# Altium footprint library 16Z.PcbLib: 42 footprints (part 2 of 3)
Each footprint in its own frame and in the unit in brackets; x right, y up, seen from the top. Pads: shape width x height; smd on the part's side, far side on the other; paste and mask are expansions set on the pad; w line width, h text height; cw(c..) or ccw(c..) is an arc to the next point about the centre after c.
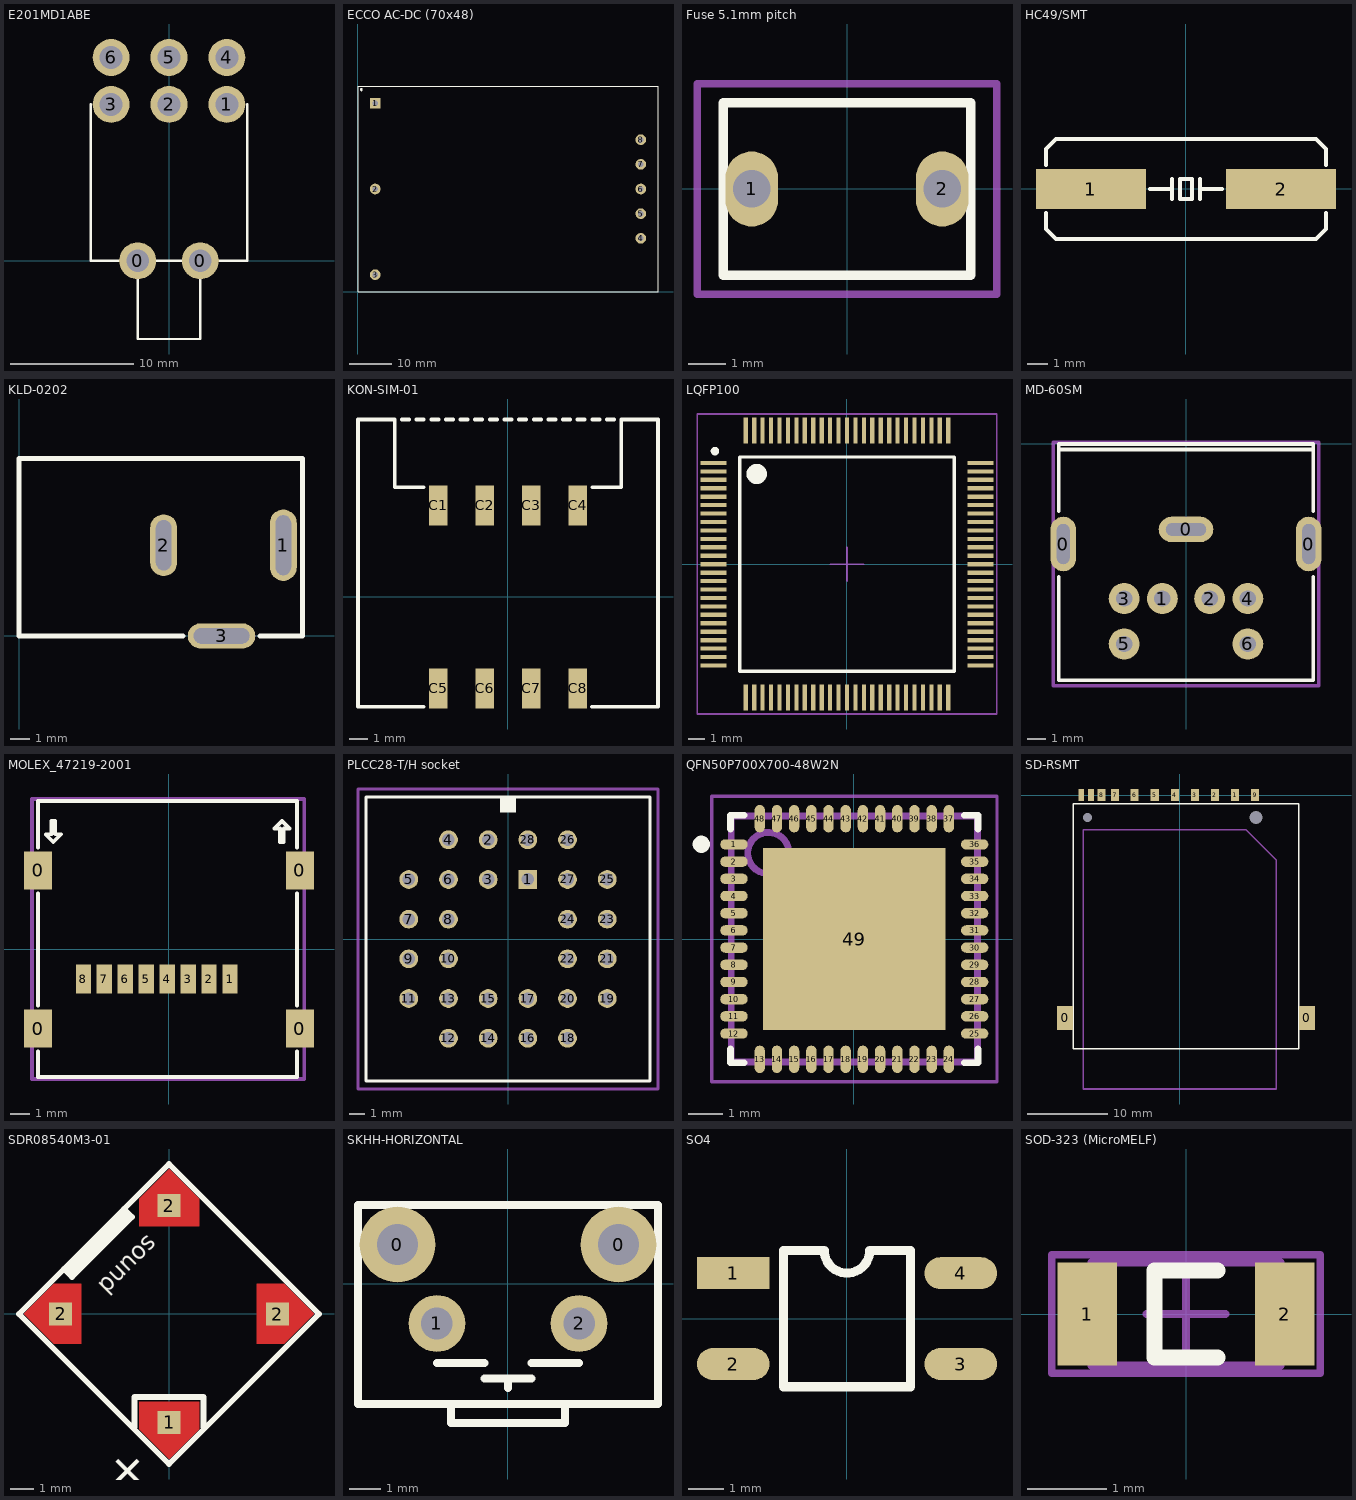
[diagram p1: the footprints below, top view; thin cyan lines are the x and y axes]

## E201MD1ABE [mm] "E series toggle switch (horizontal)"
height 11.4
pads (8):
  round 3 hole 1.85: 0(-2.54,0) 0(2.54,0) 1(4.699,12.7) 2(0,12.7) 3(-4.699,12.7) 4(4.699,16.51) 5(0,16.51) 6(-4.699,16.51)
Top Overlay:
  lines w0.2: -6.35,12.7 -6.35,0 6.35,0 6.35,12.7 ; -2.54,0 -2.54,-6.35 2.54,-6.35 2.54,0
3D body: height 18, standoff 0, extent -6.35,0 6.35,12.7

## ECCO AC-DC (70x48) [mm] "AC/DC converter"
height 23.5
pads (8):
  rect 2.5x2.5 hole 1.22: 1(4,44)
  round 2.5 hole 1.22: 2(4,24) 3(4,4) 4(66,12.5) 5(66,18.25) 6(66,24) 7(66,29.75) 8(66,35.5)
Top Overlay:
  circle w0.254: c0.8,47.2 r0.224
  lines w0.254: 0,0 70,0 70,48 0,48 0,0
3D body: height 23.5, standoff 0, extent 0,0 70,48

## Fuse 5.1mm pitch [mm] "Resettable fuse 5.1mm pitch"
height 11
pads (2):
  oval 1.4x2 hole 1: 1(-2.54,0) 2(2.54,0)
Top Overlay:
  lines w0.254: -3.3,-2.3 3.3,-2.3 3.3,2.3 -3.3,2.3 -3.3,-2.3
Mechanical 13:
  lines w0.2: -4,-2.8 -4,2.8 4,2.8 4,-2.8 -4,-2.8
3D body: height 11, standoff 1, extent -3.3,-2.3 3.3,2.3
3D body: height 1, standoff 0, extent -2.859,-0.317 -2.221,0.32
3D body: height 1, standoff 0, extent 2.221,-0.317 2.859,0.32

## HC49/SMT [mm] "Standard HC49/SMT footprint"
height 4
pads (2):
  rect 5.5x2 smd: 1(-4.75,0) 2(4.75,0)
Top Overlay:
  lines w0.2: -7,-1.2 -7,-2 -6.5,-2.5 6.5,-2.5 7,-2 7,-1.2 ; -7,1.2 -7,2 -6.5,2.5 6.5,2.5 7,2 7,1.2 ; -1.8,0 -0.7,0 ; -0.7,-0.5 -0.7,0.5 ; 0.7,-0.5 0.7,0.5 ; 0.7,0 1.8,0 ; -0.3,-0.5 -0.3,0.5 0,0.5 0.3,0.5 0.3,-0.5 0,-0.5 -0.3,-0.5
3D body: height 1, standoff 0, extent -7,-2.5 7,2.5
3D body: height 3, standoff 1, extent -6.3,-1.7 6.3,1.7

## KLD-0202 [mm] "KLD-0202-XX DC jack (RIGHT ANGLE)"
height 11
pads (3):
  oval 1.4x3.7 hole 0.8 slot 3.1 at 90 deg: 1(13.7,4.7)
  oval 1.4x3.2 hole 0.8 slot 2.6 at 90 deg: 2(7.5,4.7)
  oval 3.5x1.3 hole 0.8 slot 2.9 at 0 deg: 3(10.5,0)
Top Overlay:
  lines w0.254: 8.5,0 0,0 0,9.2 14.7,9.2 14.7,0 14.5,0 12.5,0
3D body: height 4.6, standoff 0, extent 0,0 14.7,9.2
3D body: height 9.16, standoff 0, extent 0.05,0.018 14.75,9.2

## KON-SIM-01 [mm] "Open SIM connector"
height 2.7
pads (8):
  rect 1x2.2 smd: C1(-3.81,5) C2(-1.27,5) C3(1.27,5) C4(3.81,5) C5(-3.81,-5) C6(-1.27,-5) C7(1.27,-5) C8(3.81,-5)
Top Overlay:
  lines w0.2: -5.8,9.7 -5.4,9.7 ; -5,9.7 -4.6,9.7 ; -4.61,-6 -8.2,-6 -8.2,9.7 -6.2,9.7 -6.2,6 -4.6,6 ; -4.2,9.7 -3.8,9.7 ; -3.4,9.7 -3,9.7 ; -2.6,9.7 -2.2,9.7 ; -1.8,9.7 -1.4,9.7 ; -1,9.7 -0.6,9.7 ; -0.2,9.7 0.2,9.7 ; 0.6,9.7 1,9.7 ; 1.4,9.7 1.8,9.7 ; 2.2,9.7 2.6,9.7 ; 3,9.7 3.4,9.7 ; 3.8,9.7 4.2,9.7 ; 4.59,-6 8.2,-6 8.2,9.7 6.2,9.7 6.2,6 4.6,6 ; 4.6,9.7 5,9.7 ; 5.4,9.7 5.8,9.7
3D body: height 2.7, standoff 0, extent -8.2,-6 8.2,9.7
3D body: height 3, standoff 1, extent -7.5,-15.8 7.5,9.2

## LQFP100 [mm] "0.5mm Pitch LQFP100 Package"
height 1.041
pads (100):
  rect 1.55x0.25 smd: 1(-7.9,6) 2(-7.9,5.5) 3(-7.9,5) 4(-7.9,4.5) 5(-7.9,4) 6(-7.9,3.5) 7(-7.9,3) 8(-7.9,2.5) 9(-7.9,2) 10(-7.9,1.5) 11(-7.9,1) 12(-7.9,0.5) 13(-7.9,0) 14(-7.9,-0.5) 15(-7.9,-1) 16(-7.9,-1.5) 17(-7.9,-2) 18(-7.9,-2.5) 19(-7.9,-3) 20(-7.9,-3.5) 21(-7.9,-4) 22(-7.9,-4.5) 23(-7.9,-5) 24(-7.9,-5.5) 25(-7.9,-6) 51(7.9,-6) 52(7.9,-5.5) 53(7.9,-5) 54(7.9,-4.5) 55(7.9,-4) 56(7.9,-3.5) 57(7.9,-3) 58(7.9,-2.5) 59(7.9,-2) 60(7.9,-1.5) 61(7.9,-1) 62(7.9,-0.5) 63(7.9,0) 64(7.9,0.5) 65(7.9,1) 66(7.9,1.5) 67(7.9,2) 68(7.9,2.5) 69(7.9,3) 70(7.9,3.5) 71(7.9,4) 72(7.9,4.5) 73(7.9,5) 74(7.9,5.5) 75(7.9,6)
  rect 0.25x1.55 smd: 26(-6,-7.9) 27(-5.5,-7.9) 28(-5,-7.9) 29(-4.5,-7.9) 30(-4,-7.9) 31(-3.5,-7.9) 32(-3,-7.9) 33(-2.5,-7.9) 34(-2,-7.9) 35(-1.5,-7.9) 36(-1,-7.9) 37(-0.5,-7.9) 38(0,-7.9) 39(0.5,-7.9) 40(1,-7.9) 41(1.5,-7.9) 42(2,-7.9) 43(2.5,-7.9) 44(3,-7.9) 45(3.5,-7.9) 46(4,-7.9) 47(4.5,-7.9) 48(5,-7.9) 49(5.5,-7.9) 50(6,-7.9) 76(6,7.925) 77(5.5,7.925) 78(5,7.925) 79(4.5,7.925) 80(4,7.925) 81(3.5,7.925) 82(3,7.925) 83(2.5,7.925) 84(2,7.925) 85(1.5,7.925) 86(1,7.925) 87(0.5,7.925) 88(0,7.925) 89(-0.5,7.925) 90(-1,7.925) 91(-1.5,7.925) 92(-2,7.925) 93(-2.5,7.925) 94(-3,7.925) 95(-3.5,7.925) 96(-4,7.925) 97(-4.5,7.925) 98(-5,7.925) 99(-5.5,7.925) 100(-6,7.925)
Top Overlay:
  circle w0.25: c-7.825,6.7 r0.125
  circle w0.6: c-5.35,5.35 r0.3
  lines w0.2: -6.35,-6.35 -6.35,6.35 6.35,6.35 6.35,-6.35 -6.35,-6.35
Mechanical 15:
  lines w0.1: -8.875,-8.875 -8.875,8.9 8.875,8.9 8.875,-8.875 -8.875,-8.875
  lines w0.102: -1,0 1,0 ; 0,-1 0,1
3D body: height 1.6, standoff 0, extent -7,-7 7,7

## MD-60SM [mm] "6-pin mini-DIN connector (female) PS/2"
height 12.8
pads (9):
  oval 1.4x3 hole 0.7 slot 2.2 at 90 deg: 0(-6.75,-5.5) 0(6.75,-5.5)
  oval 3x1.4 hole 0.7 slot 2.2 at 0 deg: 0(0,-4.7)
  round 1.7 hole 0.9: 1(-1.3,-8.5) 2(1.3,-8.5) 3(-3.4,-8.5) 4(3.4,-8.5) 5(-3.4,-11) 6(3.4,-11)
Top Overlay:
  lines w0.2: -7,-7.3 -7,-13 7,-13 7,-7.3 ; -7,-3.7 -7,-0.3 ; 7,-3.7 7,-0.3 ; -7,-0.3 -7,0 7,0 7,-0.3 ; -7,-0.3 7,-0.3
Mechanical 11:
  lines w0.2: -7.3,-13.3 7.3,-13.3 7.3,0.1 -7.3,0.1 -7.3,-13.3
3D body: height 12.8, standoff 0.1, extent -7,-13 7,0

## MOLEX_47219-2001 [mm] "microSD connector (hinge lid type)"
height 1.9
pads (12):
  rect 1.45x2 smd: 0(-6.875,-4.15) 0(-6.875,4.15) 0(6.875,-4.15) 0(6.875,4.15)
  rect 0.8x1.5 smd: 1(3.205,-1.55) 2(2.105,-1.55) 3(1.005,-1.55) 4(-0.095,-1.55) 5(-1.195,-1.55) 6(-2.295,-1.55) 7(-3.395,-1.55) 8(-4.495,-1.55)
Top Overlay:
  lines w0.2: -6.875,-5.35 -6.875,-6.7 6.725,-6.7 6.725,-5.35 ; -6.875,-2.95 -6.875,2.95 ; -6.875,5.35 -6.875,7.8 6.725,7.8 6.725,5.35 ; 6.725,-2.95 6.725,2.95 ; -6.475,6.05 -6.075,5.65 -5.675,6.05 -5.975,6.05 -5.975,6.75 -6.175,6.75 -6.175,6.05 -6.475,6.05 ; 5.525,6.35 5.825,6.35 5.825,5.65 6.025,5.65 6.025,6.35 6.325,6.35 5.925,6.75 5.525,6.35
Mechanical 15:
  lines w0.2: -7.2,-6.8 -7.2,7.9 7.1,7.9 7.1,-6.8 -7.2,-6.8
3D body: height 1.9, standoff 0, extent -6.9,-6.7 6.7,7.8

## PLCC28-T/H socket [mm] "8428-11B1-RK-TP"
height 8
pads (28):
  rect 1.2x1.2 hole 0.8: 1(1.27,3.81)
  round 1.2 hole 0.8: 2(-1.27,6.35) 3(-1.27,3.81) 4(-3.81,6.35) 5(-6.35,3.81) 6(-3.81,3.81) 7(-6.35,1.27) 8(-3.81,1.27) 9(-6.35,-1.27) 10(-3.81,-1.27) 11(-6.35,-3.81) 12(-3.81,-6.35) 13(-3.81,-3.81) 14(-1.27,-6.35) 15(-1.27,-3.81) 16(1.27,-6.35) 17(1.27,-3.81) 18(3.81,-6.35) 19(6.35,-3.81) 20(3.81,-3.81) 21(6.35,-1.27) 22(3.81,-1.27) 23(6.35,1.27) 24(3.81,1.27) 25(6.35,3.81) 26(3.81,6.35) 27(3.81,3.81) 28(1.27,6.35)
Top Overlay:
  rectangle: -0.5,8.1 0.5,9.1
  lines w0.2: -9.1,-9.1 -9.1,9.1 9.1,9.1 9.1,-9.1 -9.1,-9.1
Mechanical 15:
  lines w0.2: -9.6,-9.6 -9.6,9.6 9.6,9.6 9.6,-9.6 -9.6,-9.6
3D body: height 8, standoff 0, extent -9.1,-9.1 9.1,9.1

## QFN50P700X700-48W2N [mm]
pads (49):
  oval 0.8x0.3 smd: 1(-3.488,2.754) 2(-3.488,2.254) 3(-3.488,1.754) 4(-3.488,1.254) 5(-3.488,0.754) 6(-3.488,0.254) 7(-3.488,-0.246) 8(-3.488,-0.746) 9(-3.488,-1.246) 10(-3.488,-1.746) 11(-3.488,-2.246) 12(-3.488,-2.746) 25(3.512,-2.746) 26(3.512,-2.246) 27(3.512,-1.746) 28(3.512,-1.246) 29(3.512,-0.746) 30(3.512,-0.246) 31(3.512,0.254) 32(3.512,0.754) 33(3.512,1.254) 34(3.512,1.754) 35(3.512,2.254) 36(3.512,2.754)
  oval 0.3x0.8 smd: 13(-2.738,-3.496) 14(-2.238,-3.496) 15(-1.738,-3.496) 16(-1.238,-3.496) 17(-0.738,-3.496) 18(-0.238,-3.496) 19(0.262,-3.496) 20(0.762,-3.496) 21(1.262,-3.496) 22(1.762,-3.496) 23(2.262,-3.496) 24(2.762,-3.496) 37(2.762,3.504) 38(2.262,3.504) 39(1.762,3.504) 40(1.262,3.504) 41(0.762,3.504) 42(0.262,3.504) 43(-0.238,3.504) 44(-0.738,3.504) 45(-1.238,3.504) 46(-1.738,3.504) 47(-2.238,3.504) 48(-2.738,3.504)
  rect 5.3x5.3 smd: 49(0.012,0.004)
Top Overlay:
  circle w0.25: c-4.438,2.759 r0.125
  lines w0.01: -2.438,-1.616 -2.438,-0.726 -0.228,-0.066 -0.198,-0.136 -2.438,-1.616 ; -2.438,0.734 -2.438,1.624 -0.198,0.144 -0.228,0.074 -2.438,0.734 ; -1.608,-2.446 -0.128,-0.206 -0.058,-0.236 -0.718,-2.446 -1.608,-2.446 ; -1.608,2.454 -0.718,2.454 -0.058,0.244 -0.128,0.214 -1.608,2.454 ; 0.082,-0.236 0.152,-0.206 1.632,-2.446 0.742,-2.446 0.082,-0.236 ; 0.082,0.244 0.742,2.454 1.632,2.454 0.152,0.214 0.082,0.244 ; 0.222,-0.136 0.252,-0.066 2.462,-0.726 2.462,-1.616 0.222,-0.136 ; 0.222,0.144 2.462,1.624 2.462,0.734 0.252,0.074 0.222,0.144
  lines w0.2: -3.588,-3.196 -3.588,-3.596 -3.188,-3.596 ; -3.588,3.204 -3.588,3.604 -3.188,3.604 ; 3.212,-3.596 3.612,-3.596 3.612,-3.196 ; 3.212,3.604 3.612,3.604 3.612,3.204
Mechanical 11:
  lines w0.001: -3.568,-3.576 3.592,-3.576 3.592,3.584 -3.568,3.584 -3.568,-3.576
Mechanical 13:
  circle w0.2: c-2.488,2.504 r0.6
  lines w0.2: -3.568,-3.576 3.592,-3.576 3.592,3.584 -3.568,3.584 -3.568,-3.576
Mechanical 15:
  lines w0.1: -0.488,0.004 0.512,0.004 ; 0.012,-0.496 0.012,0.504 ; -4.138,-4.146 4.162,-4.146 4.162,4.154 -4.138,4.154 -4.138,-4.146
3D body: height 0.8, standoff 0, extent -3.568,-3.576 3.592,3.584

## SD-RSMT [mm] "3M: SD card push-push connector"
height 3.1
pads (15):
  rect 2x3 smd: 0(-14.28,-27.75) 0(15.82,-27.75)
  rect 0x0 hole 1.1: 0(-11.5,-2.8)
  rect 0x0 hole 1.6: 0(9.5,-2.8)
  rect 1x1.5 smd: 1(6.88,0) 2(4.38,0) 3(1.88,0) 4(-0.62,0) 5(-3.12,0) 6(-5.62,0) 7(-8.05,0) 8(-9.75,0) 9(9.38,0)
  rect 0.7x1.5 smd: DET(-11.05,0) WP(-12.25,0)
Top Overlay:
  lines w0.2: -13.28,-31.6 14.82,-31.6 14.82,-1.1 -13.28,-1.1 -13.28,-31.6
Mechanical 15:
  lines w0.2: -12,-36.6 12,-36.6 12,-8.1 8.2,-4.3 -12,-4.3 -12,-36.6
3D body: height 3, standoff 0, extent -13.3,-31.6 14.9,-1.1
3D body: height 2.2, standoff 1, extent -12,-36.6 12,-31.7

## SDR08540M3-01 [mm] "TDK: Electromagnetic Buzzers SMD Terminal SDR Series"
height 4
pads (4):
  rect 1x1 smd: 1(0,-4.7) 2(-4.7,0) 2(0,4.7) 2(4.7,0)
Top Layer:
  region: 0,-6.3 1.3,-5 1.3,-3.8 -1.3,-3.8 -1.3,-5
  region: -6.3,0 -5,-1.3 -3.8,-1.3 -3.8,1.3 -5,1.3
  region: 0,6.3 -1.3,5 -1.3,3.8 1.3,3.8 1.3,5
  region: 6.3,0 5,1.3 3.8,1.3 3.8,-1.3 5,-1.3
Top Overlay:
  region: -4.2,1.6 -4.55,1.95 -1.95,4.55 -1.6,4.2
  lines w0.254: -4.55,1.95 -4.2,1.6 -1.6,4.2 -1.95,4.55 ; -1.5,-4.9 -1.5,-3.6 1.5,-3.6 1.5,-4.9 ; -6.5,0 0,6.5 6.5,0 0,-6.5 -6.5,0
  text "sound" at -0.919,3.465 h0.75
  text "+" at -1.626,-5.728 h1.52
3D body: height 4, standoff 0, extent -6.5,-6.5 6.5,6.5

## SKHH-HORIZONTAL [mm] "ALPS SKHH series horizontal tactile switch 6x6x4.3mm"
height 7.1
pads (4):
  round 2.4 hole 1.3: 0(-3.5,1.25) 0(3.5,1.25)
  round 1.8 hole 1: 1(-2.25,-1.25) 2(2.25,-1.25)
Top Overlay:
  lines w0.254: -2.25,-2.5 -0.75,-2.5 ; -1.8,-3.8 -1.8,-4.4 1.8,-4.4 1.8,-3.8 ; -0.75,-3 0.75,-3 ; 0,-3.3 0,-3 ; 0.75,-2.5 2.25,-2.5 ; -4.75,-3.8 -4.75,2.5 4.75,2.5 4.75,-3.8 -4.75,-3.8
3D body: height 5.29, standoff 1.7, extent -1.796,-4.5 1.796,-3.7
3D body: height 7, standoff 0, extent -4.8,-3.8 4.8,2.5

## SO4 [mil] "2.54mm pitch; 4.4mm body"
pads (4):
  rect 80x35 smd: 1(-125,50)
  oval 80x35 smd: 2(-125,-50) 3(125,-50) 4(125,50)
Top Overlay:
  lines w10: -70,71.73 -70,-75 70,-75 70,71.73 ; -70,75 -25,75 ccw(c0,75) 25,75 70,75
3D body: height 55.12, standoff 0, extent -98.43,-78.74 98.43,78.74

## SOD-323 (MicroMELF) [mm]
height 0.85
pads (2):
  rect 0.75x1.3 smd: 1(-1.25,0) 2(1.25,0)
Top Overlay:
  lines w0.2: 0.4,-0.55 -0.4,-0.55 -0.4,0.55 0.4,0.55
Mechanical 13:
  lines w0.1: -1.2,-0.65 -1.2,0.65 1.2,0.65 1.2,-0.65 -1.2,-0.65
Mechanical 15:
  lines w0.1: -0.5,0 0.5,0 ; 0,-0.5 0,0.5 ; -1.7,-0.75 -1.7,0.75 1.7,0.75 1.7,-0.75 -1.7,-0.75
3D body: height 0.85, standoff 0, extent -1.25,-0.65 1.25,0.65